# Altium schematic symbol library Power_Schlib1.SchLib: 24 symbols
Pins are listed as number, name and electrical type; pins without a type are passive.

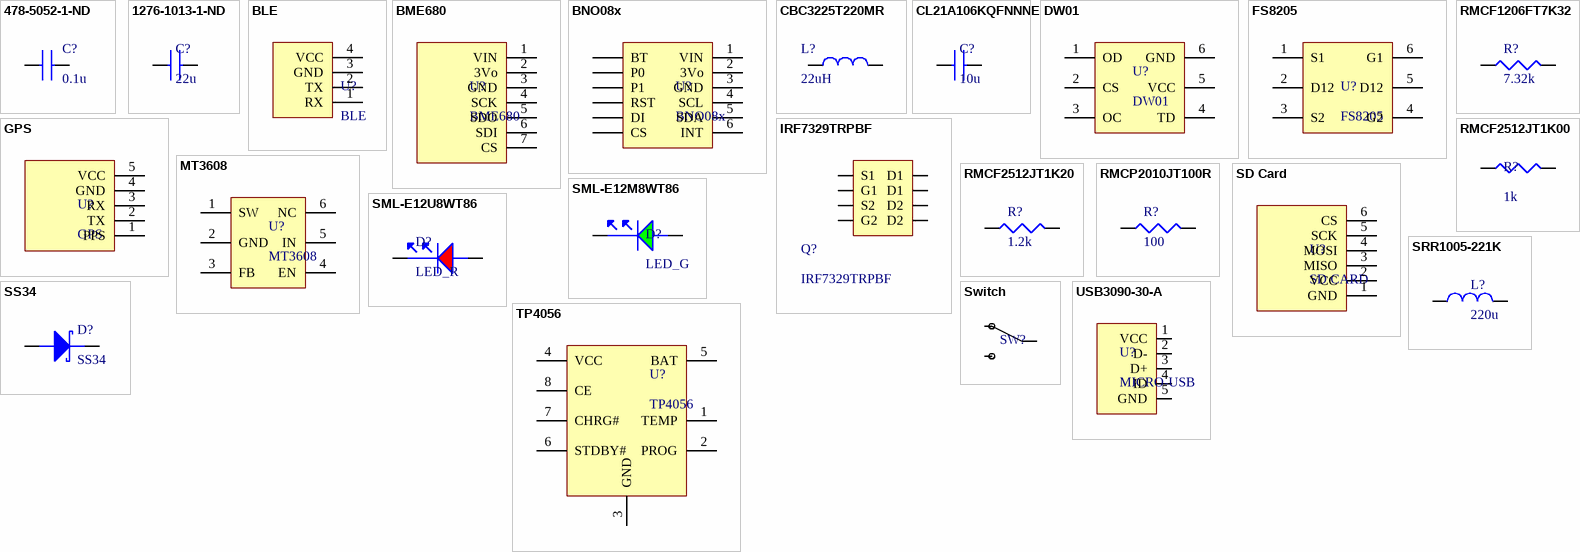
[diagram p0: symbols 478-5052-1-ND to USB3090-30-A]

## 478-5052-1-ND
designator C?, comment 0.1u
Cap Ceramic 0.1uF 6.3VDC X5R 10% SMD 0201 Paper T/R; Manufacturer: Samsung; Manufacturer Part Number: CL03A104KQ3NNNC; Capacitance: 100nF; Voltage Rating: 6.3V; Supplier 1: Digi-Key; RoHS: Yes; Category: Ceramic Capacitors; Stock 1: 6993845; Pricing 1: 1=0.10000, 10=0.01700, 50=0.00940, 100=0.00760, 500=0.00544, 1000=0.00427, 2500=0.00388, 5000=0.00357 (USD); Mount: Surface Mount; Case/Package: 0201; Case Code (Metric): 0603; Case Code (Imperial): 0201; Contact Plating: Tin; Min Operating Temperature: -55°C; Max Operating Temperature: 85°C; Tolerance: 10%; Package Quantity: 1; Packaging: Tape and Reel; Dielectric: X5R; Voltage: 6.3V; Voltage Rating (DC): 6.3V; Series: CL; Construction: Flat; Length: 0.6mm; Width: 0.012inch; Height: 0.3mm; Thickness: 0.013inch; Depth: 0.3mm; Radiation Hardening: No; Lead Free: Lead Free; ComponentLink1URL: https://datasheet.ciiva.com/15195/getdatasheetpartid-355266-15195551.pdf?src-supplier=Verical; ComponentLink1Description: https://datasheet.ciiva.com/15195/getdatasheetpartid-355266-15195551.pdf?src-supplier=Verical; ComponentLink2URL: https://datasheet.ciiva.com/16355/cl03a104kq3nnnc-16355155.pdf?src-supplier=Future+Electronics; ComponentLink2Description: https://datasheet.ciiva.com/16355/cl03a104kq3nnnc-16355155.pdf?src-supplier=Future+Electronics; ComponentLink3URL: https://datasheet.ciiva.com/26309/mlcc-catalogdownload2013-eng-26309017.pdf?src-supplier=Distrelec; ComponentLink3Description: https://datasheet.ciiva.com/26309/mlcc-catalogdownload2013-eng-26309017.pdf?src-supplier=Distrelec; Supplier Part Number 1: 1276-1013-1-ND
footprint CL03
pins: 1 6, 2 7

## 1276-1013-1-ND
designator C?, comment 22u
Cap Ceramic 22uF 6.3V X5R 20% SMD 0603 85°C Cardboard T/R; Manufacturer: Samsung; Manufacturer Part Number: CL10A226MQ8NRNC; Supplier 1: Digi-Key; RoHS: Yes; Category: Ceramic Capacitors; Stock 1: 950255; Pricing 1: 1=0.31000, 10=0.21000, 50=0.12600, 100=0.10640, 500=0.07280, 1000=0.06441 (USD); Mount: Surface Mount; Case/Package: 0603; Case Code (Metric): 1608; Case Code (Imperial): 0603; Material: Ceramic; Contact Plating: Tin; Min Operating Temperature: -55°C; Max Operating Temperature: 85°C; Capacitance: 22uF; Tolerance: 20%; Packaging: Tape and Reel; Voltage Rating: 6.3V; Package Quantity: 1; Dielectric: X5R; Voltage: 6.3V; Series: CL; Construction: Flat; Length: 1.6mm; Width: 0.031inch; Height: 0.8mm; Thickness: 0.039inch; Depth: 0.8mm; Radiation Hardening: No; RoHS Compliant: Yes; ComponentLink1URL: https://datasheet.ciiva.com/25790/cl10a226mq8nrnc-25790695.pdf?src-supplier=Digi-Key; ComponentLink1Description: https://datasheet.ciiva.com/25790/cl10a226mq8nrnc-25790695.pdf?src-supplier=Digi-Key; ComponentLink2URL: https://datasheet.ciiva.com/26838/getdatasheetpartid-353311-26838372.pdf?src-supplier=Verical; ComponentLink2Description: https://datasheet.ciiva.com/26838/getdatasheetpartid-353311-26838372.pdf?src-supplier=Verical; ComponentLink3URL: https://datasheet.ciiva.com/29198/457121-da-01-en-vs-kondensator-0603-29198747.pdf?src-supplier=Conrad; ComponentLink3Description: https://datasheet.ciiva.com/29198/457121-da-01-en-vs-kondensator-0603-29198747.pdf?src-supplier=Conrad; ComponentLink4URL: https://datasheet.ciiva.com/16437/cl05b104kq5nnnc-16437317.pdf?src-supplier=Future+Electronics; ComponentLink4Description: https://datasheet.ciiva.com/16437/cl05b104kq5nnnc-16437317.pdf?src-supplier=Future+Electronics; Supplier Part Number 1: 1276-1193-1-ND
footprint CL10
pins: 1 6, 2 7

## BLE
designator U?
footprint BLE
pins: 1 RX, 2 TX, 3 GND, 4 VCC

## BME680
designator U?
footprint BME680
pins: 1 VIN, 2 3Vo, 3 GND, 4 SCK, 5 SDO, 6 SDI, 7 CS

## BNO08x
designator U?
footprint BNO08x
pins: 1 VIN, 2 3Vo, 3 GND, 4 SCL, 5 SDA, 6 INT, ?1 CS, ?2 DI, ?3 RST, ?4 P1, ?5 P0, ?6 BT

## CBC3225T220MR
designator L?, comment 22uH
Inductor Power Chip Wirewound 22uH 20% 100KHz Ferrite 0.62A 0.351Ohm DCR 1210 T/R; Manufacturer: Taiyo Yuden; Manufacturer Part Number: CBC3225T220MR; Self Resonant Frequency: 17MHz; Current Rating: 780mA; Saturation Current: 620mA; Shielding: Unshielded; DC Resistance (DCR): 351mR; Supplier 1: Mouser; RoHS: Yes; Category: Fixed Inductors; Stock 1: 156168; Pricing 1: 1=0.31000, 10=0.22500, 50=0.22500, 100=0.18300, 1000=0.12800, 10000=0.10200 (USD); Mount: Surface Mount; Case/Package: 1210; Number of Pins: 2; Core Material: Ferrite; Case Code (Metric): 3225; Case Code (Imperial): 1210; Min Operating Temperature: -40°C; Max Operating Temperature: 105°C; Inductance Tolerance: 20%; Packaging: Tape and Reel; Package Quantity: 1000; Tolerance: 20%; Resistor Type: Wirewound; Inductance: 22uH; Test Frequency: 100kHz; Max DC Current: 780mA; Termination: SMD/SMT; DC Current: 780mA; Series: CB; Length: 0.126inch; Width: 0.098inch; Height: 2.5mm; Height - Seated (Max): 0.106inch; Depth: 2.7mm; Radiation Hardening: No; RoHS Compliant: Yes; REACH SVHC: Unknown; Military Standard: Not; Lead Free: Lead Free; Halogen Free: Halogen Free; ComponentLink1URL: https://datasheet.ciiva.com/8503/cbc3225t220mr-ss-8503638.pdf?src-supplier=Avnet; ComponentLink1Description: https://datasheet.ciiva.com/8503/cbc3225t220mr-ss-8503638.pdf?src-supplier=Avnet; ComponentLink2URL: https://datasheet.ciiva.com/15981/506cbc3225t220mr-15981705.pdf?src-supplier=Onlinecomponents.com; ComponentLink2Description: https://datasheet.ciiva.com/15981/506cbc3225t220mr-15981705.pdf?src-supplier=Onlinecomponents.com; ComponentLink3URL: https://datasheet.ciiva.com/22624/1697178-22624159.pdf?src-supplier=Element14; ComponentLink3Description: https://datasheet.ciiva.com/22624/1697178-22624159.pdf?src-supplier=Element14; ComponentLink4URL: https://datasheet.ciiva.com/26871/getdatasheetpartid-637427-26871177.pdf?src-supplier=Verical; ComponentLink4Description: https://datasheet.ciiva.com/26871/getdatasheetpartid-637427-26871177.pdf?src-supplier=Verical; ComponentLink5URL: https://datasheet.ciiva.com/7291/cbc3225t220mr-ss-7291520.pdf?src-supplier=Newark; ComponentLink5Description: https://datasheet.ciiva.com/7291/cbc3225t220mr-ss-7291520.pdf?src-supplier=Newark; ComponentLink6URL: https://datasheet.ciiva.com/28479/1521599-28479565.pdf?src-supplier=Element14; ComponentLink6Description: https://datasheet.ciiva.com/28479/1521599-28479565.pdf?src-supplier=Element14; Supplier Part Number 1: 963-CBC3225T220MR
footprint CBC3225
pins: 1, 2

## CL21A106KQFNNNE
designator C?, comment 10u
Cap Ceramic 10uF 6.3V X5R 10% SMD 0805 85C Embossed T/R; Manufacturer: Samsung; Manufacturer Part Number: CL21A106KQFNNNE; Supplier 1: Digi-Key; RoHS: Yes; Category: Ceramic Capacitors; Stock 1: 54959; Pricing 1: 1=0.12000, 10=0.09000, 50=0.04880, 100=0.03990, 500=0.02850, 1000=0.02239 (USD); Mount: Surface Mount; Case/Package: 0805; Case Code (Metric): 2012; Case Code (Imperial): 0805; Contact Plating: Tin; Min Operating Temperature: -55°C; Max Operating Temperature: 85°C; Tolerance: 10%; Packaging: Tape and Reel; Capacitance: 10uF; Package Quantity: 1; Voltage Rating: 6.3V; Dielectric: X5R; Voltage Rating (DC): 6.3V; Series: CL; Construction: Flat; Length: 2mm; Width: 0.049inch; Height: 1.25mm; Thickness: 0.053inch; Depth: 1.25mm; Radiation Hardening: No; Lead Free: Lead Free; RoHS Compliant: Yes; ComponentLink1URL: https://datasheet.ciiva.com/15195/getdatasheetpartid-39111-15195859.pdf?src-supplier=Verical; ComponentLink1Description: https://datasheet.ciiva.com/15195/getdatasheetpartid-39111-15195859.pdf?src-supplier=Verical; ComponentLink2URL: https://datasheet.ciiva.com/16294/cl05b104kq5nnnc-16294137.pdf?src-supplier=Future+Electronics; ComponentLink2Description: https://datasheet.ciiva.com/16294/cl05b104kq5nnnc-16294137.pdf?src-supplier=Future+Electronics; Supplier Part Number 1: 1276-1122-1-ND
footprint CL21
pins: 1 6, 2 7

## DW01
designator U?
footprint DW01
pins: 1 OD, 2 CS, 3 OC, 4 TD, 5 VCC, 6 GND

## FS8205
designator U?
footprint FS8205
pins: 1 S1, 2 D12, 3 S2, 4 G2, 5 D12, 6 G1

## GPS
designator U?
footprint GPS
pins: 1 PPS, 2 TX, 3 RX, 4 GND, 5 VCC

## IRF7329TRPBF
designator Q?
footprint SO-8
pins: 1 S1, 2 G1, 3 S2, 4 G2, 5 D1, 6 D1, 7 D2, 8 D2

## MT3608
designator U?
footprint MT3608
pins: 1 SW, 2 GND, 3 FB, 4 EN, 5 IN, 6 NC

## RMCF1206FT7K32
designator R?, comment 7.32k
RES SMD 7.32K OHM 1% 1/4W 1206; Manufacturer: Stackpole Electronics; Manufacturer Part Number: RMCF1206FT7K32; Resistance: 7.32kR; Max Power Dissipation: 250mW; Temperature Coefficient: 100ppm/°C; Supplier 1: Digi-Key; Supplier Part Number 1: RMCF1206FT7K32CT-ND; RoHS: Yes; Category: Chip SMD Resistors; Stock 1: 3049; Pricing 1: 1=0.10000, 10=0.03600, 100=0.01460, 1000=0.00655, 2500=0.00569 (USD); Mount: Surface Mount; Case/Package: 1206; Case Code (Metric): 3216; Case Code (Imperial): 1206; Contact Plating: Tin,Matte; Min Operating Temperature: -55°C; Max Operating Temperature: 155°C; Tolerance: 1%; Features: Automotive AEC-Q200; Series: RMCF; Packaging: Tape and Reel; Resistor Type: Thick Film; Number of Terminations: 2; Length: 0.126inch; Width: 0.063inch; Height: 0.028inch; Radiation Hardening: No; RoHS Compliant: Yes; ComponentLink1URL: http://components.arrow.com/part/dataview/50583323S134593N1174?src-supplier=Arrow+Electronics; ComponentLink1Description: http://components.arrow.com/part/dataview/50583323S134593N1174?src-supplier=Arrow+Electronics; ComponentLink2URL: https://www.seielect.com/catalog/SEI-RMCF_RMCP.pdf?src-supplier=Avnet; ComponentLink2Description: https://www.seielect.com/catalog/SEI-RMCF_RMCP.pdf?src-supplier=Avnet; ComponentLink3URL: https://www.seielect.com/Catalog/SEI-RMCF_RMCP.pdf?src-supplier=Digi-Key; ComponentLink3Description: https://www.seielect.com/Catalog/SEI-RMCF_RMCP.pdf?src-supplier=Digi-Key; ComponentLink4URL: https://www.seielect.com/catalog/SEI-Packaging.pdf?src-supplier=Digi-Key; ComponentLink4Description: https://www.seielect.com/catalog/SEI-Packaging.pdf?src-supplier=Digi-Key
footprint RMCP1206
pins: 1, 2

## RMCF2512JT1K00
designator R?, comment 1k
Res Thick Film 2512 1K Ohm 5% 1W ±200ppm/°C Molded SMD Plastic T/R; Manufacturer: Stackpole Electronics; Manufacturer Part Number: RMCF2512JT1K00; Resistance: 1kR; Supplier 1: Digi-Key; RoHS: Yes; Category: Chip SMD Resistors; Stock 1: 61639; Pricing 1: 1=0.30000, 10=0.25300, 100=0.09890, 1000=0.04140 (USD); Mount: Surface Mount; Case/Package: 2512; Case Code (Metric): 6432; Case Code (Imperial): 2512; Contact Plating: Tin,Matte; Size Code: 2512; Min Operating Temperature: -55°C; Max Operating Temperature: 155°C; Power Rating: 1W; Tolerance: 5%; Packaging: Tape and Reel; Resistor Type: Thick Film; Number of Terminations: 2; Max Power Dissipation: 1W; Temperature Coefficient: 200ppm/°C; Features: Automotive AEC-Q200; Series: RMCF; Construction: Rectangular; Length: 6.3mm; Width: 0.126inch; Height: 0.028inch; Depth: 3.2mm; Radiation Hardening: No; Lead Free: Lead Free; Military Standard: Not; RoHS Compliant: Yes; ComponentLink1URL: https://datasheet.ciiva.com/15193/getdatasheetpartid-368669-15193877.pdf?src-supplier=Verical; ComponentLink1Description: https://datasheet.ciiva.com/15193/getdatasheetpartid-368669-15193877.pdf?src-supplier=Verical; Supplier Part Number 1: RMCF2512JT1K00CT-ND
footprint RMCP2512
pins: 1, 2

## RMCF2512JT1K20
designator R?, comment 1.2k
Res Thick Film 2512 1.2K Ohm 5% 1W 100ppm/C Molded SMD SMD Plastic T/R; Manufacturer: Stackpole Electronics; Manufacturer Part Number: RMCF2512JT1K20; Resistance: 1.2kR; Temperature Coefficient: 100ppm/°C; Supplier 1: Digi-Key; Supplier Part Number 1: RMCF2512JT1K20CT-ND; RoHS: Yes; Category: Chip SMD Resistors; Stock 1: 2092; Pricing 1: 1=0.30000, 10=0.25300, 100=0.09890, 1000=0.04140 (USD); Mount: Surface Mount; Case/Package: 2512; Contact Plating: Tin,Matte; Size Code: 2512; Min Operating Temperature: -55°C; Max Operating Temperature: 155°C; Package Quantity: 4000; Packaging: Tape and Reel; Tolerance: 5%; Power Rating: 1W; Resistor Type: Thick Film; Number of Terminations: 2; Max Power Dissipation: 1W; Features: Automotive AEC-Q200; Series: RMCF; Construction: Rectangular; Length: 0.248inch; Width: 0.126inch; Height: 0.028inch; Depth: 3.2mm; Radiation Hardening: No; Military Standard: Not; Lead Free: Lead Free; RoHS Compliant: Yes; ComponentLink1URL: https://datasheet.ciiva.com/15193/getdatasheetpartid-408032-15193878.pdf?src-supplier=Verical; ComponentLink1Description: https://datasheet.ciiva.com/15193/getdatasheetpartid-408032-15193878.pdf?src-supplier=Verical
footprint RMCP2512
pins: 1, 2

## RMCP2010JT100R
designator R?, comment 100
RES 100 OHM 1W 5% 2010; Manufacturer: Stackpole Electronics; Manufacturer Part Number: RMCP2010JT100R; Resistance: 100R; Temperature Coefficient: 100ppm/°C; Supplier 1: Digi-Key; Supplier Part Number 1: RMCP2010JT100RCT-ND; RoHS: Yes; Category: Chip SMD Resistors; Stock 1: 13184; Pricing 1: 1=0.41000, 10=0.29800, 100=0.11900, 1000=0.05865 (USD); Case/Package: 2010; Case Code (Metric): 5025; Case Code (Imperial): 2010; Min Operating Temperature: -55°C; Max Operating Temperature: 155°C; Package Quantity: 4000; Packaging: Tape and Reel; Tolerance: 5%; Resistor Type: Thick Film; Number of Terminations: 2; Max Power Dissipation: 1W; Series: RMCP; Length: 0.197inch; Width: 0.098inch; Height: 0.028inch; Lead Free: Lead Free; RoHS Compliant: Yes; ComponentLink1URL: https://www.seielect.com/Catalog/SEI-RMCF_RMCP.pdf?src-supplier=Digi-Key; ComponentLink1Description: https://www.seielect.com/Catalog/SEI-RMCF_RMCP.pdf?src-supplier=Digi-Key; ComponentLink2URL: https://www.seielect.com/catalog/SEI-Packaging.pdf?src-supplier=Digi-Key; ComponentLink2Description: https://www.seielect.com/catalog/SEI-Packaging.pdf?src-supplier=Digi-Key; ComponentLink3URL: https://www.seielect.com/Catalog/SEI-RMCF_RMCP.pdf?src-supplier=Avnet; ComponentLink3Description: https://www.seielect.com/Catalog/SEI-RMCF_RMCP.pdf?src-supplier=Avnet
footprint RMCP2010
pins: 1, 2

## SD Card
designator U?, comment SD CARD
footprint SD CARD
pins: 1 GND, 2 VCC, 3 MISO, 4 MOSI, 5 SCK, 6 CS

## SML-E12M8WT86
designator D?, comment LED_G
LED Uni-Color Yellow Green 2-Pin Chip LED T/R; Manufacturer: Rohm; Manufacturer Part Number: SML-E12M8WT86; Color: Green,Yellow; Lens Color: White; Forward Current: 20mA; Forward Voltage: 2.2V; Luminous Intensity: 25mcd; Viewing Angle: 140°; Lens Style: Diffused,Colorless,Rectangular; Dominant Wavelength: 572nm; Lens Transparency: Diffused; Number of LEDs: 1; Supplier 1: Digi-Key; RoHS: Yes; Category: LEDs; Stock 1: 6086; Pricing 1: 1=0.31000, 10=0.24400, 100=0.10940, 500=0.09884, 1000=0.08119, 2000=0.07060 (USD); Mount: Surface Mount; Case/Package: 0603; Number of Pins: 2; Case Code (Metric): 1608; Case Code (Imperial): 0603; Min Operating Temperature: -40°C; Max Operating Temperature: 85°C; Packaging: Tape and Reel; Package Quantity: 1; Series: EXCELED™; Illumination Color: Green; Test Current: 20mA; Wavelength: 572nm; Length: 1.6mm; Width: 0.8mm; Height: 0.46mm; Radiation Hardening: No; Lead Free: Lead Free; RoHS Compliant: Yes; ComponentLink1URL: https://datasheet.ciiva.com/16391/rohm20sml-e12m8wt86-16391779.pdf?src-supplier=Future+Electronics; ComponentLink1Description: https://datasheet.ciiva.com/16391/rohm20sml-e12m8wt86-16391779.pdf?src-supplier=Future+Electronics; ComponentLink2URL: https://datasheet.ciiva.com/2110/sml-e1-2110342.pdf?src-supplier=Digi-Key; ComponentLink2Description: https://datasheet.ciiva.com/2110/sml-e1-2110342.pdf?src-supplier=Digi-Key; ComponentLink3URL: https://datasheet.ciiva.com/2110/sml-e1-2110343.pdf?src-supplier=Digi-Key; ComponentLink3Description: https://datasheet.ciiva.com/2110/sml-e1-2110343.pdf?src-supplier=Digi-Key; ComponentLink4URL: https://datasheet.ciiva.com/2110/sml-e1-2110344.pdf?src-supplier=Digi-Key; ComponentLink4Description: https://datasheet.ciiva.com/2110/sml-e1-2110344.pdf?src-supplier=Digi-Key; Supplier Part Number 1: 511-1584-1-ND
footprint SML-E12
pins: 1, 2

## SML-E12U8WT86
designator D?, comment LED_R
ROHM - SML-E12U8WT86 - LED, Rosso, SMD, 603, 20 mA, 2.2 V, 620 nm; Color: Red; Lens Color: White; Lens Style: Diffused,Colorless,Rectangular,Clear; Forward Voltage: 2.2V; Viewing Angle: 140°; Forward Current: 20mA; Luminous Intensity: 63mcd; Dominant Wavelength: 620nm; Lens Transparency: Diffused; Number of LEDs: 1; Supplier 1: Digi-Key; Supplier Part Number 1: 511-1586-1-ND; Manufacturer: Rohm; Manufacturer Part Number: SML-E12U8WT86; RoHS: Yes; Category: LEDs; Stock 1: 656; Pricing 1: 1=0.31000, 10=0.24400, 100=0.10940, 500=0.09884, 1000=0.08119, 2000=0.07060 (USD); Mount: Surface Mount; Case/Package: 0603; Number of Pins: 2; Case Code (Metric): 1608; Case Code (Imperial): 0603; Min Operating Temperature: -40°C; Max Operating Temperature: 85°C; Package Quantity: 1; Packaging: Tape and Reel; Series: EXCELED™; Illumination Color: Red; Test Current: 20mA; Wavelength: 620nm; Length: 1.6mm; Width: 0.8mm; Height: 0.46mm; Radiation Hardening: No; Lead Free: Lead Free; RoHS Compliant: Yes; ComponentLink1URL: https://datasheet.ciiva.com/2110/sml-e1-2110339.pdf?src-supplier=Digi-Key; ComponentLink1Description: https://datasheet.ciiva.com/2110/sml-e1-2110339.pdf?src-supplier=Digi-Key; ComponentLink2URL: https://datasheet.ciiva.com/2110/sml-e1-2110340.pdf?src-supplier=Digi-Key; ComponentLink2Description: https://datasheet.ciiva.com/2110/sml-e1-2110340.pdf?src-supplier=Digi-Key; ComponentLink3URL: https://datasheet.ciiva.com/2110/sml-e1-2110341.pdf?src-supplier=Digi-Key; ComponentLink3Description: https://datasheet.ciiva.com/2110/sml-e1-2110341.pdf?src-supplier=Digi-Key
footprint SML-E12
pins: 1, 2

## SRR1005-221K
designator L?, comment 220u
INDUCTOR, SHIELDED, 220UH, 630MA, SMD; Product Range:SRR1005 Series; Inductance:220 H; Inductance Tolerance: 10%; Inductor Construction:Shielded; DC Resistance Max:0.8ohm; RMS Current (Irms):450mA; Saturation Current (Isat):630mA ;RoHS Compliant: Yes; Manufacturer: Bourns; Manufacturer Part Number: SRR1005-221K; Core Material: Ferrite; Material: Steel; Frequency: 5.2MHz; Q Factor: 30; Current Rating: 450mA; Resistance: 800MR; Test Frequency: 1kHz; Supplier 1: Digi-Key; RoHS: Yes; Category: Fixed Inductors; Stock 1: 138; Pricing 1: 1=1.18000, 10=1.09900, 25=1.01440, 50=0.84540, 100=0.79460, 250=0.71008 (USD); Mount: Surface Mount; Case/Package: 1005; Number of Pins: 2; Weight: 0.045856oz; Min Operating Temperature: -40°C; Max Operating Temperature: 125°C; Tolerance: 10%; Packaging: Tape and Reel; Self Resonant Frequency: 5.2MHz; Shielding: Shielded; Package Quantity: 600; Saturation Current: 630mA; Inductance: 220uH; Resistor Type: Wirewound; DC Resistance (DCR): 800mR; Max DC Current: 450mA; Termination: SMD/SMT; RMS Current (Irms): 450mA; DC Current: 450mA; Series: SRR1005; Sample Rate (Hz): 1kHz; Length: 12.7mm; Width: 10mm; Height: 5.2mm; Height - Seated (Max): 0.205inch; Depth: 10.2mm; Radiation Hardening: No; REACH SVHC: No SVHC; Military Standard: Not; RoHS Compliant: Yes; ComponentLink1URL: https://datasheet.ciiva.com/3867/2874892s6198495n1506-3867163.pdf?src-supplier=Avnet; ComponentLink1Description: https://datasheet.ciiva.com/3867/2874892s6198495n1506-3867163.pdf?src-supplier=Avnet; ComponentLink2URL: https://datasheet.ciiva.com/11802/0900766b80f2b72b-11802940.pdf?src-supplier=RSComponents; ComponentLink2Description: https://datasheet.ciiva.com/11802/0900766b80f2b72b-11802940.pdf?src-supplier=RSComponents; ComponentLink3URL: https://datasheet.ciiva.com/6700/srr1005-6700603.pdf?src-supplier=Digi-Key; ComponentLink3Description: https://datasheet.ciiva.com/6700/srr1005-6700603.pdf?src-supplier=Digi-Key; ComponentLink4URL: https://datasheet.ciiva.com/6700/srr1005-6700605.pdf?src-supplier=Digi-Key; ComponentLink4Description: https://datasheet.ciiva.com/6700/srr1005-6700605.pdf?src-supplier=Digi-Key; ComponentLink5URL: https://datasheet.ciiva.com/17284/srr1005-17284908.pdf?src-supplier=Avnet+Europe; ComponentLink5Description: https://datasheet.ciiva.com/17284/srr1005-17284908.pdf?src-supplier=Avnet+Europe; ComponentLink6URL: https://datasheet.ciiva.com/7839/srr1005-7839112.pdf?src-supplier=Element14; ComponentLink6Description: https://datasheet.ciiva.com/7839/srr1005-7839112.pdf?src-supplier=Element14; Supplier Part Number 1: SRR1005-221KCT-ND
footprint SRR1005
pins: 1 17, 2 16

## SS34
designator D?
DIODE SCHOTTKY 40V 3A SMC; Manufacturer: ON Semiconductor / Fairchild; Number of Terminals/Pins: 2; Max Reverse Current: 500uA; Max Surge Current: 100A; Element Configuration: Single; Polarity: Standard; Number of Elements: 1; Max Power Dissipation: 2.27W; Forward Voltage: 500mV; Supplier 1: Digi-Key; Manufacturer Part Number: SS34; RoHS: Yes; Category: Schottky Diodes; Stock 1: 16899; Pricing 1: 1=0.65000, 10=0.57500, 100=0.44120, 500=0.34874, 1000=0.28788 (USD); Mount: Surface Mount; Case/Package: SMC; Number of Pins: 2; Contact Plating: Tin,Matte; Min Operating Temperature: -55°C; Max Operating Temperature: 150°C; Packaging: Tape and Reel; Package Quantity: 1; Forward Current: 3A; Max Reverse Leakage Current: 500uA; Max Repetitive Reverse Voltage (Vrrm): 40V; Peak Non-Repetitive Surge Current: 100A; Voltage Rating (DC): 40V; Current Rating: 3A; Output Current: 3A; Average Rectified Current: 3A; Max Forward Surge Current (Ifsm): 100A; Current: 3A; Voltage: 40V; Max Reverse Voltage (DC): 40V; Length: 7.15mm; Width: 6.25mm; Height: 2.75mm; Radiation Hardening: No; REACH SVHC: No SVHC; Lead Free: Lead Free; RoHS Compliant: Yes; ComponentLink1URL: https://datasheet.ciiva.com/911/ss34-911088.pdf?src-supplier=Avnet; ComponentLink1Description: https://datasheet.ciiva.com/911/ss34-911088.pdf?src-supplier=Avnet; ComponentLink2URL: https://datasheet.ciiva.com/23832/1725604-23832651.pdf?src-supplier=Newark; ComponentLink2Description: https://datasheet.ciiva.com/23832/1725604-23832651.pdf?src-supplier=Newark; ComponentLink3URL: https://datasheet.ciiva.com/34301/1090087-34301975.pdf?src-supplier=Jameco; ComponentLink3Description: https://datasheet.ciiva.com/34301/1090087-34301975.pdf?src-supplier=Jameco; ComponentLink4URL: https://datasheet.ciiva.com/34302/1547649-34302462.pdf?src-supplier=Jameco; ComponentLink4Description: https://datasheet.ciiva.com/34302/1547649-34302462.pdf?src-supplier=Jameco; ComponentLink5URL: https://datasheet.ciiva.com/4715/ss34-197057-4715255.pdf?src-supplier=Mouser; ComponentLink5Description: https://datasheet.ciiva.com/4715/ss34-197057-4715255.pdf?src-supplier=Mouser; ComponentLink6URL: https://datasheet.ciiva.com/7965/1774678-7965245.pdf?src-supplier=Element14; ComponentLink6Description: https://datasheet.ciiva.com/7965/1774678-7965245.pdf?src-supplier=Element14; ComponentLink7URL: https://datasheet.ciiva.com/8300/ss39-8300583.pdf?src-supplier=Avnet; ComponentLink7Description: https://datasheet.ciiva.com/8300/ss39-8300583.pdf?src-supplier=Avnet; ComponentLink8URL: https://datasheet.ciiva.com/911/ss34-911086.pdf?src-supplier=Digi-Key; ComponentLink8Description: https://datasheet.ciiva.com/911/ss34-911086.pdf?src-supplier=Digi-Key; ComponentLink9URL: https://datasheet.ciiva.com/911/ss34-911087.pdf?src-supplier=Digi-Key; ComponentLink9Description: https://datasheet.ciiva.com/911/ss34-911087.pdf?src-supplier=Digi-Key; ComponentLink10URL: https://datasheet.ciiva.com/911/ss34-911085.pdf?src-supplier=Digi-Key; ComponentLink10Description: https://datasheet.ciiva.com/911/ss34-911085.pdf?src-supplier=Digi-Key; Supplier Part Number 1: SS34FSCT-ND
footprint SS34
pins: A 14, K 15

## Switch
designator SW?, comment SW  (value not drawn)
footprint SWITCH
pins: 1 7, 2 5, 3 6

## TP4056
designator U?
footprint TP4056
pins: 1 TEMP, 2 PROG, 3 GND, 4 VCC, 5 BAT, 6 STDBY#, 7 CHRG#, 8 CE

## USB3090-30-A
designator U?, comment MICRO-USB
Micro A/b Skt, Bottom-smt, R/a, 3; Manufacturer: Global Connector Technology; Manufacturer Part Number: USB3090-30-A; Connector Type: USB; Gender: Receptacle; Number of Contacts: 5; USB Standard: USB 2.0; Supplier 1: Newark; RoHS: Yes; Category: USB Connectors; Stock 1: 1500; Pricing 1: 1=0.92100, 1500=0.88200, 3000=0.70900, 7500=0.63800, 10500=0.58100, 15000=0.53200 (USD); Contact Material: Copper Alloy; Contact Plating: Gold; Weight: 0.001lb; Termination: SMD/SMT; Number of Positions: 5; Orientation: Right Angle; Series: USB3090; Length: 0.525inch; Width: 0.525inch; Height: 0.525inch; REACH SVHC: No SVHC; Lead Free: Lead Free; RoHS Compliant: Yes; ComponentLink1URL: https://datasheet.ciiva.com/6743/usb3090-6743569.pdf?src-supplier=Newark; ComponentLink1Description: https://datasheet.ciiva.com/6743/usb3090-6743569.pdf?src-supplier=Newark; ComponentLink2URL: https://datasheet.ciiva.com/16502/usb3090-16502726.pdf?src-supplier=Future+Electronics; ComponentLink2Description: https://datasheet.ciiva.com/16502/usb3090-16502726.pdf?src-supplier=Future+Electronics; ComponentLink3URL: https://datasheet.ciiva.com/7633/1912470-7633851.pdf?src-supplier=Element14; ComponentLink3Description: https://datasheet.ciiva.com/7633/1912470-7633851.pdf?src-supplier=Element14; Supplier Part Number 1: 24AC9900
footprint USB
pins: 1 VCC, 2 D-, 3 D+, 4 ID, 5 GND